# Altium schematic symbol library Fuse.SchLib: 1 symbol
Pins are listed as number, name and electrical type; pins without a type are passive.

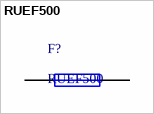
[diagram p0: symbol RUEF500]

## RUEF500
designator F?
30V 5A Resettable fuse
footprint FUSE_RES
pins: 1, 2